# Altium schematic symbol library LVDS_RX_SOT-23-5.Schlib: 1 symbol
Pins are listed as number, name and electrical type; pins without a type are passive.

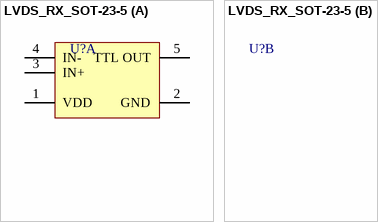
[diagram p0: symbol LVDS_RX_SOT-23-5]

## LVDS_RX_SOT-23-5
designator U?
part A pins: 1 VDD, 2 GND, 3 IN+, 4 IN-, 5 TTL OUT
1 alternate drawing of the same symbol